# Altium schematic symbol library SCH - RF - AMPLIFIER - GUERRILLARF GRF5020.SCHLIB: 1 symbol
Pins are listed as number, name and electrical type; pins without a type are passive.

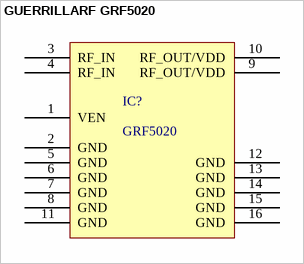
[diagram p0: symbol GUERRILLARF GRF5020]

## GUERRILLARF GRF5020
designator IC?, comment GRF5020
Manufacturer: GuerrillaRF; Part Number: GRF5020
pins: 1 VEN, 2 GND, 3 RF_IN, 4 RF_IN, 5 GND, 6 GND, 7 GND, 8 GND, 9 RF_OUT/VDD, 10 RF_OUT/VDD, 11 GND, 12 GND, 13 GND, 14 GND, 15 GND, 16 GND